# Altium integrated library Resistors.IntLib: 85 symbols
Pins are listed as number, name and electrical type; pins without a type are passive.

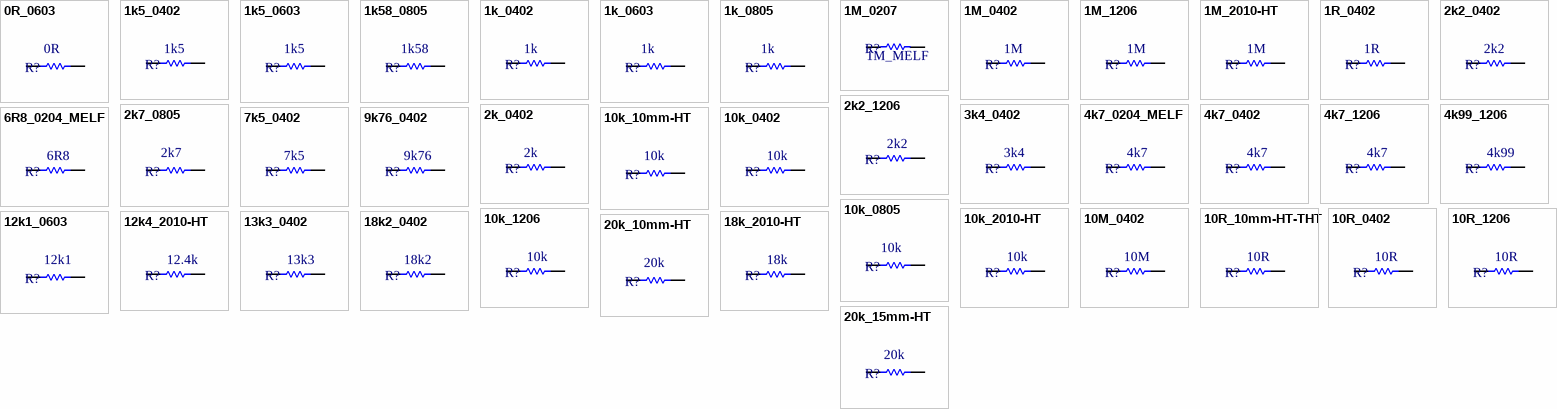
[diagram p0: symbols 0R_0603 to 20k_15mm-HT]

## 0R_0603
designator R?  value 0R  (hidden comment: 0R_0603)
Vishay, CRCW series, 100mW; Manufacturer PartNr: CRCW06030000ZSTA; Deliverer PartNr: 1652824; TDE-PN: R0041; Deliverer: Farnell; Published: 18.02.2014; Publisher: Sebastian Kulik; PackageDescription: 0603; Manufacturer: Vishay; Part Desicription: Vishay, CRCW series, 100mW
footprint R0603(1608) (Chip Resistor, 0603)
simulation model RESISTOR (Resistor)
signal-integrity model Res
pins: 1, 2

## 1k5_0402
designator R?  value 1k5  (hidden comment: 1k5_0402)
Vishay CRCW series, 125mW, 1%; Manufacturer PartNr: CRCW04021K50FKEAHP; Deliverer PartNr: 1738852; Part Description: Vishay CRCW series, 63mW, 1%; TDE-PN: R0036; Deliverer: Farnell; Published: 13.02.2014; Publisher: Sebastian Kulik; PackageDescription: 0402; Manufacturer: Vishay
footprint R0402 (Chip Resistor, Body 1.0x0.5mm)
simulation model RESISTOR (Resistor)
signal-integrity model Res
pins: 1, 2

## 1k5_0603
designator R?  value 1k5  (hidden comment: 1k5_0603)
Vishay, CRCW series, 100mW, 1%; Manufacturer PartNr: CRCW06031K50FKEA; Deliverer PartNr: 1469743; TDE-PN: R0001; Deliverer: Farnell; Published: 11.02.2014; Publisher: Sebastian Kulik; PackageDescription: 0603; Manufacturer: Vishay; Part Desicription: Vishay, CRCW series, 100mW, 1%
footprint R0603(1608) (Chip Resistor, 0603)
simulation model RESISTOR (Resistor)
signal-integrity model Res
pins: 1, 2

## 1k58_0805
designator R?  value 1k58  (hidden comment: 1k58_0805)
Vishay CRCW series, 125mW, 1%; Manufacturer PartNr: CRCW08051K58FKEA; Deliverer PartNr: 2138936RL; TDE-PN: R0002; Deliverer: Farnell; Published: 11.02.2014; Publisher: Sebastian Kulik; PackageDescription: 0805; Manufacturer: Vishay; Part Description: Vishay CRCW series, 125mW, 1%
footprint 6-0805_M (Chip Resistor, Body 2.0x1.2mm, IPC Low Density)
simulation model RESISTOR (Resistor)
signal-integrity model Res
pins: 1, 2

## 1k_0402
designator R?  value 1k  (hidden comment: 1k_0402)
Vishay CRCW series, 64mW, 1%; Manufacturer PartNr: CRCW04021K00FKED; Deliverer PartNr: 1469662RL; Part Description: Vishay CRCW series, 63mW, 1%; TDE-PN: R0003; Deliverer: Farnell; Published: 03.04.2014; Publisher: Sebastian Kulik; PackageDescription: 0402; Manufacturer: Vishay
footprint R0402 (Chip Resistor, Body 1.0x0.5mm)
simulation model RESISTOR (Resistor)
signal-integrity model Res
pins: 1, 2

## 1k_0603
designator R?  value 1k  (hidden comment: 1k_0603)
Vishay CRCW series, 100mW, 1%; Manufacturer PartNr: CRCW06031K00FKTA; Deliverer PartNr: 1652848; TDE-PN: R0070; Deliverer: Farnell; Published: 03.04.2014; Publisher: Sebastian Kulik; PackageDescription: 0603; Manufacturer: Vishay; Part Description: Vishay CRCW series, 100mW, 1%
footprint R0603(1608) (Chip Resistor, 0603)
simulation model RESISTOR (Resistor)
signal-integrity model Res
pins: 1, 2

## 1k_0805
designator R?  value 1k  (hidden comment: 1k_0805)
Vishay CRCW series, 125mW, 1%; Manufacturer PartNr: CRCW04021K00FKED; Deliverer PartNr: 2123128; TDE-PN: R0004; Deliverer: Farnell; Published: 03.04.2014; Publisher: Sebastian Kulik; PackageDescription: 0805; Manufacturer: Vishay; Part Description: Vishay CRCW series, 125mW, 1%
footprint 6-0805_M (Chip Resistor, Body 2.0x1.2mm, IPC Low Density)
simulation model RESISTOR (Resistor)
signal-integrity model Res
pins: 1, 2

## 1M_0207
designator R?  value 1M_MELF  (hidden comment: 1M_0207)
CMB series, 1W, 2%; Manufacturer: Vishay; Manufacturer PartNr: CMB02070X1004GB200; Deliverer PartNr: 1713643RL; TDE-PN: R0043; Deliverer: Farnell; Published: 29.04.2014; Publisher: Sebastian Kulik; PackageDescription: R0207; Part Description: CMB series, 1W, 2%
footprint R0207-MELF (MELF Resistor, 0207)
simulation model RESISTOR (Resistor)
signal-integrity model Res
pins: 1, 2

## 1M_0402
designator R?  value 1M  (hidden comment: 1M_0402)
Vishay CRCW series, 64mW, 1%; Manufacturer PartNr: CRCW04021M00FKED; Deliverer PartNr: 1469667; Part Description: Vishay CRCW series, 63mW, 1%; TDE-PN: R0005; Deliverer: Farnell; Published: 03.04.2014; Publisher: Sebastian Kulik; PackageDescription: 0402; Manufacturer: Vishay
footprint R0402 (Chip Resistor, Body 1.0x0.5mm)
simulation model RESISTOR (Resistor)
signal-integrity model Res
pins: 1, 2

## 1M_1206
designator R?  value 1M  (hidden comment: 1M_1206)
Vishay CRCW series, 250mW, 1%; Manufacturer PartNr: CRCW12061M00FKEA; Deliverer PartNr: 1469968RL; TDE-PN: R0052; Deliverer: Farnell; Published: 27.10.2014; Publisher: Sebastian Kulik; PackageDescription: 1206; Manufacturer: Vishay; Part Description: Vishay CRCW series, 250mW, 1%
simulation model RESISTOR (Resistor)
signal-integrity model Res
footprint R1206_N (Chip Resistor Body 3.2x2.5mm)
pins: 1, 2

## 1M_2010-HT
designator R?  value 1M  (hidden comment: 1M_2010-HT)
CHPHT series, 1% 100mW 200°C; Manufacturer: Vishay; Manufacturer PartNr: CHPHT2010K1004FNT; TDE-PN: R0078; Published: 17.06.2016; Publisher: Sebastian Kulik; PackageDescription: 2010; Deliverer: Vishay; Deliverer PartNr: CHPHT2010K1004FNT; Part Description: CHPHT series, 1% 100mW 200°C; Price: *
simulation model RESISTOR (Resistor)
signal-integrity model Res
footprint R2010 (Chip Resistor Body 5.08x2.54mm)
pins: 1, 2

## 1R_0402
designator R?  value 1R  (hidden comment: 1R_0402)
Vishay CRCW series, 64mW, 1%; Manufacturer PartNr: CRCW04021R00JNEDIF; Deliverer PartNr: 1739054RL; Part Description: Vishay CRCW series, 63mW, 1%; TDE-PN: R0006; Deliverer: Farnell; Published: 03.04.2014; Publisher: Sebastian Kulik; PackageDescription: 0402; Manufacturer: Vishay
footprint R0402 (Chip Resistor, Body 1.0x0.5mm)
simulation model RESISTOR (Resistor)
signal-integrity model Res
pins: 1, 2

## 2k2_0402
designator R?  value 2k2  (hidden comment: 2k2_0402)
Vishay CRCW series, 64mW, 1%; Manufacturer PartNr: CRCW04022K20FKEAHP; Deliverer PartNr: 1738854; Part Description: Vishay CRCW series, 63mW, 1%; TDE-PN: R0006; Deliverer: Farnell; Published: 03.04.2014; Publisher: Sebastian Kulik; PackageDescription: 0402; Manufacturer: Vishay
footprint R0402 (Chip Resistor, Body 1.0x0.5mm)
simulation model RESISTOR (Resistor)
signal-integrity model Res
pins: 1, 2

## 2k2_1206
designator R?  value 2k2  (hidden comment: 2k2_1206)
Vishay CRCW series, 250mW, 1%; Manufacturer PartNr: CRCW12062K20FKEAHP; Deliverer PartNr: 1739017RL; TDE-PN: R0062; Deliverer: Farnell; Published: 11.11.2014; Publisher: Sebastian Kulik; PackageDescription: 1206; Manufacturer: Vishay; Part Description: Vishay CRCW series, 250mW, 1%
simulation model RESISTOR (Resistor)
signal-integrity model Res
footprint R1206_N (Chip Resistor Body 3.2x2.5mm)
pins: 1, 2

## 2k7_0805
designator R?  value 2k7  (hidden comment: 2k7_0805)
Vishay CRCW series, 125mW, 1%; Manufacturer PartNr: CRCW08052K70FKEA; Deliverer PartNr: 1469891; TDE-PN: R0034; Deliverer: Farnell; Published: 03.04.2014; Publisher: Sebastian Kulik; PackageDescription: 0805; Manufacturer: Vishay; Part Description: Vishay CRCW series, 125mW, 1%
footprint 6-0805_M (Chip Resistor, Body 2.0x1.2mm, IPC Low Density)
simulation model RESISTOR (Resistor)
signal-integrity model Res
pins: 1, 2

## 2k_0402
designator R?  value 2k  (hidden comment: 2k_0402)
Vishay CRCW series, 64mW, 1%; Manufacturer PartNr: CRCW04022K00FKED; Deliverer PartNr: 2121639; Part Description: Vishay CRCW series, 63mW, 1%; TDE-PN: R0008; Deliverer: Farnell; Published: 03.04.2014; Publisher: Sebastian Kulik; PackageDescription: 0402; Manufacturer: Vishay
footprint R0402 (Chip Resistor, Body 1.0x0.5mm)
simulation model RESISTOR (Resistor)
signal-integrity model Res
pins: 1, 2

## 3k4_0402
designator R?  value 3k4  (hidden comment: 3k4_0402)
Vishay CRCW series, 64mW, 1%; Manufacturer PartNr: CRCW04023K40FKED; Deliverer PartNr: 2140819; Part Description: Vishay CRCW series, 63mW, 1%; TDE-PN: R0049; Deliverer: Farnell; Published: 07.08.2014; Publisher: Sebastian Kulik; PackageDescription: 0402; Manufacturer: Vishay
footprint R0402 (Chip Resistor, Body 1.0x0.5mm)
simulation model RESISTOR (Resistor)
signal-integrity model Res
pins: 1, 2

## 4k7_0204_MELF
designator R?  value 4k7  (hidden comment: 4k7_0204_MELF)
MMA series, 1%, 250mW; Manufacturer: Vishay; Manufacturer PartNr: MMA02040E4701BB100; Deliverer PartNr: 3086100; TDE-PN: R0073; Deliverer: Farnell; Published: 23.02.2015; Publisher: Sebastian Kulik; PackageDescription: R0204-MELF4; Part Description: MMA series, 1%, 250mW
simulation model RESISTOR (Resistor)
signal-integrity model Res
footprint R0204-MELF4 (MELF Resistor, 0204)
pins: 1, 2

## 4k7_0402
designator R?  value 4k7  (hidden comment: 4k7_0402)
Vishay CRCW series, 63mW, 1%; Manufacturer PartNr: CRCW04024K70FKED; Deliverer PartNr: 1469712; TDE-PN: R0009; Deliverer: Farnell; Published: 25.02.2014; Publisher: Sebastian Kulik; PackageDescription: 0402; Manufacturer: Vishay; Part Description: Vishay CRCW series, 63mW, 1%
footprint R0402 (Chip Resistor, Body 1.0x0.5mm)
simulation model RESISTOR (Resistor)
signal-integrity model Res
pins: 1, 2

## 4k7_1206
designator R?  value 4k7  (hidden comment: 4k7_1206)
Vishay CRCW series, 250mW, 1%; Manufacturer PartNr: CRCW12064K70FKEA; Deliverer PartNr: 2123974; TDE-PN: R0055; Deliverer: Farnell; Published: 28.10.2014; Publisher: Sebastian Kulik; PackageDescription: 1206; Manufacturer: Vishay; Part Description: Vishay CRCW series, 250mW, 1%
simulation model RESISTOR (Resistor)
signal-integrity model Res
footprint R1206_N (Chip Resistor Body 3.2x2.5mm)
pins: 1, 2

## 4k99_1206
designator R?  value 4k99  (hidden comment: 4k99_1206)
CRCW series, 250mW, 1%; Manufacturer: Vishay; Manufacturer PartNr: CRCW12064K99FKEA; Deliverer PartNr: 1470015; TDE-PN: R0010; Deliverer: Farnell; Published: 13.03.2014; Publisher: Sebastian Kulik; PackageDescription: 1206; Part Description: CRCW series, 250mW, 1%
footprint R1206_N (Chip Resistor Body 3.2x2.5mm)
simulation model RESISTOR (Resistor)
signal-integrity model Res
pins: 1, 2

## 6R8_0204_MELF
designator R?  value 6R8  (hidden comment: 6R8_0204_MELF)
MMA series, 1%, 250mW; Manufacturer: Vishay; Manufacturer PartNr: MMA02040C6808FB300; Deliverer PartNr: 3087529; TDE-PN: R0071; Deliverer: Farnell; Published: 12.12.2014; Publisher: Sebastian Kulik; PackageDescription: R0204-MELF4; Part Description: MMA series, 1%, 250mW
simulation model RESISTOR (Resistor)
signal-integrity model Res
footprint R0204-MELF4 (MELF Resistor, 0204)
pins: 1, 2

## 7k5_0402
designator R?  value 7k5  (hidden comment: 7k5_0402)
Vishay CRCW series, 64mW, 1%; Manufacturer PartNr: CRCW04027K50FKED; Deliverer PartNr: 1469729; Part Description: Vishay CRCW series, 63mW, 1%; TDE-PN: R0032; Deliverer: Farnell; Published: 03.04.2014; Publisher: Sebastian Kulik; PackageDescription: 0402; Manufacturer: Vishay
footprint R0402 (Chip Resistor, Body 1.0x0.5mm)
simulation model RESISTOR (Resistor)
signal-integrity model Res
pins: 1, 2

## 9k76_0402
designator R?  value 9k76  (hidden comment: 9k76_0402)
Vishay CRCW series, 64mW, 1%; Manufacturer PartNr: CRCW04029K76FKED; Deliverer PartNr: 1469738RL; Part Description: Vishay CRCW series, 63mW, 1%; TDE-PN: R0011; Deliverer: Farnell; Published: 03.04.2014; Publisher: Sebastian Kulik; PackageDescription: 0402; Manufacturer: Vishay
footprint R0402 (Chip Resistor, Body 1.0x0.5mm)
simulation model RESISTOR (Resistor)
signal-integrity model Res
pins: 1, 2

## 10k_10mm-HT
designator R?  value 10k  (hidden comment: 10k_10mm-HT)
RN60 Series, 1%, 175°C; Manufacturer: Vishay; Manufacturer PartNr: RN60C1002FB14; Deliverer PartNr: 830-7450; TDE-PN: R0083; Deliverer: RS; Published: 18.07.2016; Publisher: Sebastian Kulik; PackageDescription: -; Part Desicription: RN60 Series, 1%, 175°C; Price: 0.15/1
simulation model RESISTOR (Resistor)
signal-integrity model Res
footprint Dummy-10mm
pins: 1, 2

## 10k_0402
designator R?  value 10k  (hidden comment: 10k_0402)
Vishay CRCW series, 125mW, 1%; Manufacturer PartNr: CRCW040210K0FKEAHP; Deliverer PartNr: 1738864; TDE-PN: R0012; Deliverer: Farnell; Published: 12.02.2014; Publisher: Sebastian Kulik; PackageDescription: 0402; Manufacturer: Vishay; Part Description: Vishay CRCW series, 125mW, 1%
footprint R0402 (Chip Resistor, Body 1.0x0.5mm)
simulation model RESISTOR (Resistor)
signal-integrity model Res
pins: 1, 2

## 10k_0805
designator R?  value 10k  (hidden comment: 10k_0805)
Vishay CRCW series, 125mW, 1%; Manufacturer PartNr: CRCW080510K0FKEA; Deliverer PartNr: 1469856RL; TDE-PN: R0013; Deliverer: Farnell; Published: 03.04.2014; Publisher: Sebastian Kulik; PackageDescription: 0805; Manufacturer: Vishay; Part Description: Vishay CRCW series, 125mW, 1%
footprint 6-0805_M (Chip Resistor, Body 2.0x1.2mm, IPC Low Density)
simulation model RESISTOR (Resistor)
signal-integrity model Res
pins: 1, 2

## 10k_1206
designator R?  value 10k  (hidden comment: 10k_1206)
Vishay CRCW series, 250mW, 1%; Manufacturer PartNr: CRCW120610K0FKEA; Deliverer PartNr: 2124017; TDE-PN: R0056; Deliverer: Farnell; Published: 28.10.2014; Publisher: Sebastian Kulik; PackageDescription: 1206; Manufacturer: Vishay; Part Description: Vishay CRCW series, 250mW, 1%
simulation model RESISTOR (Resistor)
signal-integrity model Res
footprint R1206_N (Chip Resistor Body 3.2x2.5mm)
pins: 1, 2

## 10k_2010-HT
designator R?  value 10k  (hidden comment: 10k_2010-HT)
CHPHT series, 1% 100mW 200°C; Manufacturer: Vishay; Manufacturer PartNr: CHPHT2010K1002FNT; TDE-PN: R0074; Published: 17.06.2016; Publisher: Sebastian Kulik; PackageDescription: 2010; Deliverer: Vishay; Deliverer PartNr: CHPHT2010K1002FNT; Part Description: CHPHT series, 1% 100mW 200°C; Price: *
simulation model RESISTOR (Resistor)
signal-integrity model Res
footprint R2010 (Chip Resistor Body 5.08x2.54mm)
pins: 1, 2

## 10M_0402
designator R?  value 10M  (hidden comment: 10M_0402)
Vishay CRCW series, 64mW, 1%; Manufacturer PartNr: CRCW040210M0FKED; Deliverer PartNr: 1469670; Part Description: Vishay CRCW series, 63mW, 1%; TDE-PN: R0014; Deliverer: Farnell; Published: 03.04.2014; Publisher: Sebastian Kulik; PackageDescription: 0402; Manufacturer: Vishay
footprint R0402 (Chip Resistor, Body 1.0x0.5mm)
simulation model RESISTOR (Resistor)
signal-integrity model Res
pins: 1, 2

## 10R_10mm-HT-THT
designator R?  value 10R  (hidden comment: 10R_10mm-HT-THT)
Vishay RN60 series,175°C ,250mW, 1%; Manufacturer PartNr: RN60D10R0FB14; Deliverer PartNr: 830-7558; TDE-PN: R0080; Deliverer: RS; Published: 27.10.2014; Publisher: Sebastian Kulik; PackageDescription: 1206; Manufacturer: Vishay; Part Description: Vishay RN60 series,175°C ,250mW, 1%; Price: 0.11/1
simulation model RESISTOR (Resistor)
signal-integrity model Res
footprint Dummy-10mm
pins: 1, 2

## 10R_0402
designator R?  value 10R  (hidden comment: 10R_0402)
Vishay CRCW series, 125mW, 1%; Manufacturer PartNr: CRCW040210R0FKEAHP; Deliverer PartNr: 1738824RL; TDE-PN: R0015; Deliverer: Farnell; Published: 12.02.2014; Publisher: Sebastian Kulik; PackageDescription: 0402; Manufacturer: Vishay; Part Description: Vishay CRCW series, 125mW, 1%
footprint R0402 (Chip Resistor, Body 1.0x0.5mm)
simulation model RESISTOR (Resistor)
signal-integrity model Res
pins: 1, 2

## 10R_1206
designator R?  value 10R  (hidden comment: 10R_1206)
Vishay CRCW series, 250mW, 1%; Manufacturer PartNr: CRCW120610R0F100; Deliverer PartNr: 1653051; TDE-PN: R0050; Deliverer: Farnell; Published: 27.10.2014; Publisher: Sebastian Kulik; PackageDescription: 1206; Manufacturer: Vishay; Part Description: Vishay CRCW series, 250mW, 1%
simulation model RESISTOR (Resistor)
signal-integrity model Res
footprint R1206_N (Chip Resistor Body 3.2x2.5mm)
pins: 1, 2

## 12k1_0603
designator R?  value 12k1  (hidden comment: 12k1_0603)
Vishay, CRCW series, 100mW, 1%; Manufacturer PartNr: CRCW060312K1FKEA; Deliverer PartNr: 1652835; TDE-PN: R0037; Deliverer: Farnell; Published: 11.02.2014; Publisher: Sebastian Kulik; PackageDescription: 0603; Manufacturer: Vishay; Part Desicription: Vishay, CRCW series, 100mW, 1%
footprint R0603(1608) (Chip Resistor, 0603)
simulation model RESISTOR (Resistor)
signal-integrity model Res
pins: 1, 2

## 12k4_2010-HT
designator R?  value 12.4k  (hidden comment: 12k4_2010-HT)
CHPHT series, 1% 100mW 200°C; Manufacturer: Vishay; Manufacturer PartNr: CHPHT2010K1242FNT; TDE-PN: R0076; Published: 17.06.2016; Publisher: Sebastian Kulik; PackageDescription: 2010; Deliverer: Vishay; Deliverer PartNr: CHPHT2010K1242FNT; Part Description: CHPHT series, 1% 100mW 200°C; Price: *
simulation model RESISTOR (Resistor)
signal-integrity model Res
footprint R2010 (Chip Resistor Body 5.08x2.54mm)
pins: 1, 2

## 13k3_0402
designator R?  value 13k3  (hidden comment: 13k3_0402)
Vishay CRCW series, 63mW, 1%; Manufacturer PartNr: CRCW040213K3FKED; Deliverer PartNr: 1652750RL; TDE-PN: R0047; Deliverer: Farnell; Published: 30.06.2014; Publisher: Sebastian Kulik; PackageDescription: 0402; Manufacturer: Vishay; Part Description: Vishay CRCW series, 63mW, 1%
footprint R0402 (Chip Resistor, Body 1.0x0.5mm)
simulation model RESISTOR (Resistor)
signal-integrity model Res
pins: 1, 2

## 18k2_0402
designator R?  value 18k2  (hidden comment: 18k2_0402)
Vishay CRCW series, 64mW, 1%; Manufacturer PartNr: CRCW040218K2FKED; Deliverer PartNr: 1652762; Part Description: Vishay CRCW series, 63mW, 1%; TDE-PN: R0016; Deliverer: Farnell; Published: 03.04.2014; Publisher: Sebastian Kulik; PackageDescription: 0402; Manufacturer: Vishay
footprint R0402 (Chip Resistor, Body 1.0x0.5mm)
simulation model RESISTOR (Resistor)
signal-integrity model Res
pins: 1, 2

## 18k_2010-HT
designator R?  value 18k  (hidden comment: 18k_2010-HT)
CHPHT series, 1% 100mW 200°C; Manufacturer: Vishay; Manufacturer PartNr: CHPHT2010K1802FNT; TDE-PN: R0079; Published: 17.06.2016; Publisher: Sebastian Kulik; PackageDescription: 2010; Deliverer: Vishay; Deliverer PartNr: CHPHT2010K1802FNT; Part Description: CHPHT series, 1% 100mW 200°C; Price: *
simulation model RESISTOR (Resistor)
signal-integrity model Res
footprint R2010 (Chip Resistor Body 5.08x2.54mm)
pins: 1, 2

## 20k_10mm-HT
designator R?  value 20k  (hidden comment: 20k_10mm-HT)
RN60 Series, 1%, 175°C; Manufacturer: Vishay; Manufacturer PartNr: RN60D2002FB14; Deliverer PartNr: 849-9095; TDE-PN: R0082; Deliverer: RS; Published: 18.07.2016; Publisher: Sebastian Kulik; PackageDescription: -; Part Desicription: RN60 Series, 1%, 175°C; Price: 0.12/1
simulation model RESISTOR (Resistor)
signal-integrity model Res
footprint Dummy-10mm
pins: 1, 2

## 20k_15mm-HT
designator R?  value 20k  (hidden comment: 20k_15mm-HT)
RN65 Series, 1%, 175°C; Manufacturer: Vishay; Manufacturer PartNr: RN65D2002FB14; Deliverer PartNr: 850-0750; TDE-PN: R0081; Deliverer: RS; Published: 18.07.2016; Publisher: Sebastian Kulik; PackageDescription: -; Part Desicription: RN65 Series, 1%, 175°C; Price: 0.30/1
simulation model RESISTOR (Resistor)
signal-integrity model Res
footprint Dummy-15mm
pins: 1, 2

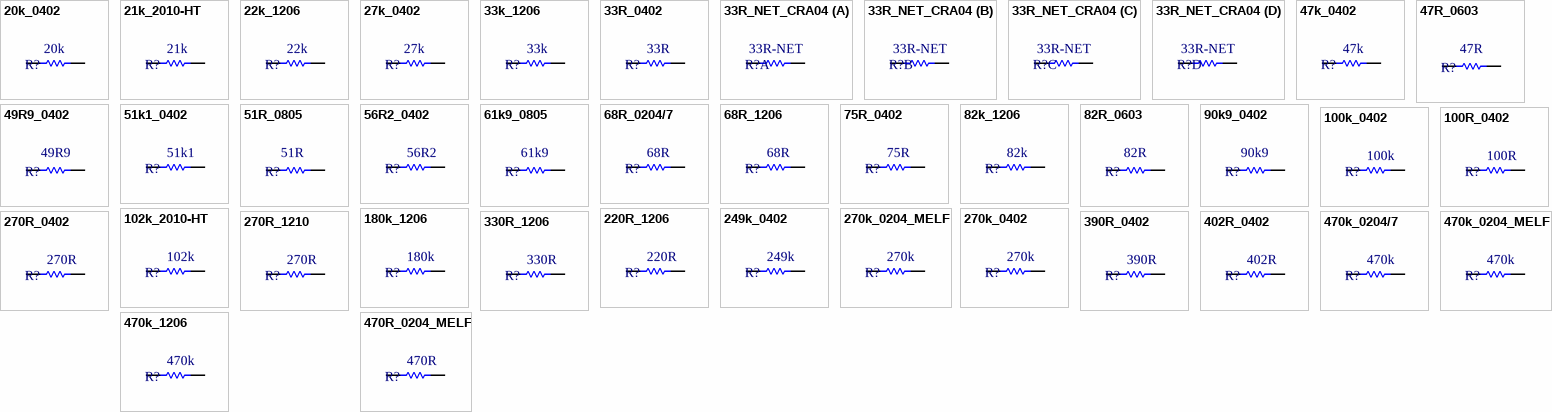
[diagram p1: symbols 20k_0402 to 470R_0204_MELF]

## 20k_0402
designator R?  value 20k  (hidden comment: 20k_0402)
Vishay CRCW series, 64mW, 1%; Manufacturer PartNr: CRCW040220K0FKED; Deliverer PartNr: 1469693RL; Part Description: Vishay CRCW series, 63mW, 1%; TDE-PN: R0017; Deliverer: Farnell; Published: 03.04.2014; PackageReference: 0402; Publisher: Sebastian Kulik; PackageDescription: 0402; Manufacturer: Vishay
simulation model RESISTOR (Resistor)
signal-integrity model Res
pins: 1, 2

## 21k_2010-HT
designator R?  value 21k  (hidden comment: 21k_2010-HT)
CHPHT series, 1% 100mW 200°C; Manufacturer: Vishay; Manufacturer PartNr: CHPHT2010K2102FNT; TDE-PN: R0075; Published: 17.06.2016; Publisher: Sebastian Kulik; PackageDescription: 2010; Deliverer: Vishay; Deliverer PartNr: CHPHT2010K2102FNT; Part Description: CHPHT series, 1% 100mW 200°C; Price: *
simulation model RESISTOR (Resistor)
signal-integrity model Res
footprint R2010 (Chip Resistor Body 5.08x2.54mm)
pins: 1, 2

## 22k_1206
designator R?  value 22k  (hidden comment: 22k_1206)
Vishay CRCW series, 250mW, 1%; Manufacturer PartNr: CRCW120622K0FKEA; Deliverer PartNr: 1469995RL; TDE-PN: R0057; Deliverer: Farnell; Published: 28.10.2014; Publisher: Sebastian Kulik; PackageDescription: 1206; Manufacturer: Vishay; Part Description: Vishay CRCW series, 250mW, 1%
simulation model RESISTOR (Resistor)
signal-integrity model Res
footprint R1206_N (Chip Resistor Body 3.2x2.5mm)
pins: 1, 2

## 27k_0402
designator R?  value 27k  (hidden comment: 27k_0402)
Vishay CRCW series, 64mW, 1%; Manufacturer PartNr: CRCW040227K0FKED; Deliverer PartNr: 2121782; Part Description: Vishay CRCW series, 63mW, 1%; TDE-PN: R0018; Deliverer: Farnell; Published: 03.04.2014; Publisher: Sebastian Kulik; PackageDescription: 0402; Manufacturer: Vishay
footprint R0402 (Chip Resistor, Body 1.0x0.5mm)
simulation model RESISTOR (Resistor)
signal-integrity model Res
pins: 1, 2

## 33k_1206
designator R?  value 33k  (hidden comment: 33k_1206)
Vishay CRCW series, 250mW, 1%; Manufacturer PartNr: CRCW120633K0FKEA; Deliverer PartNr: 2124080; TDE-PN: R0054; Deliverer: Farnell; Published: 28.10.2014; Publisher: Sebastian Kulik; PackageDescription: 1206; Manufacturer: Vishay; Part Description: Vishay CRCW series, 250mW, 1%
simulation model RESISTOR (Resistor)
signal-integrity model Res
footprint R1206_N (Chip Resistor Body 3.2x2.5mm)
pins: 1, 2

## 33R_0402
designator R?  value 33R  (hidden comment: 33R_0402)
Vishay CRCW series, 63mW, 1%; Manufacturer PartNr: CRCW040233R0FKEAHP; Deliverer PartNr: 1738830; TDE-PN: R0037; Deliverer: Farnell; Published: 12.02.2014; Publisher: Sebastian Kulik; PackageDescription: 0402; Manufacturer: Vishay; Part Description: Vishay CRCW series, 63mW, 1%
footprint R0402 (Chip Resistor, Body 1.0x0.5mm)
simulation model RESISTOR (Resistor)
signal-integrity model Res
pins: 1, 2

## 33R_NET_CRA04
designator R?  value 33R-NET  (hidden comment: 33R_NET_CRA04)
CRA04 series, 5%, 63mW; Manufacturer: Vishay; Manufacturer PartNr: CRA04S08333R0JTD; Deliverer PartNr: 1878555; TDE-PN: R0019; Deliverer: Farnell; Published: 07.04.2014; Publisher: Sebastian Kulik; PackageDescription: CRA04S; Part Description: CRA04 series, 5%, 63mW
footprint CRA04S (R-NET)
simulation model RESISTOR (Resistor)
signal-integrity model Res
part A pins: 1, 8
part B pins: 2, 7
part C pins: 3, 6
part D pins: 4, 5

## 47k_0402
designator R?  value 47k  (hidden comment: 47k_0402)
Vishay CRCW series, 63mW, 1%; Manufacturer PartNr: CRCW040247K0JNEAIF; Deliverer PartNr: 1739115; TDE-PN: R0020; Deliverer: Farnell; Published: 07.04.2014; Publisher: Sebastian Kulik; PackageDescription: 0402; Manufacturer: Vishay; Part Description: Vishay CRCW series, 63mW, 1%
footprint R0402 (Chip Resistor, Body 1.0x0.5mm)
simulation model RESISTOR (Resistor)
signal-integrity model Res
pins: 1, 2

## 47R_0603
designator R?  value 47R  (hidden comment: 47R_0603)
Vishay, CRCW series, 100mW, 1%; Manufacturer PartNr: CRCW060347R0FKEA; Deliverer PartNr: 1652835; TDE-PN: R0039; Deliverer: Farnell; Published: 18.02.2014; Publisher: Sebastian Kulik; PackageDescription: 0603; Manufacturer: Vishay; Part Desicription: Vishay, CRCW series, 100mW, 1%
footprint R0603(1608) (Chip Resistor, 0603)
simulation model RESISTOR (Resistor)
signal-integrity model Res
pins: 1, 2

## 49R9_0402
designator R?  value 49R9  (hidden comment: 49R9_0402)
Vishay CRCW series, 63mW, 1%; Manufacturer PartNr: CRCW040249R9FKED; Deliverer PartNr: 1469722; TDE-PN: R0035; Deliverer: Farnell; Published: 13.02.2014; Publisher: Sebastian Kulik; PackageDescription: 0402; Manufacturer: Vishay; Part Description: Vishay CRCW series, 63mW, 1%
footprint R0402 (Chip Resistor, Body 1.0x0.5mm)
simulation model RESISTOR (Resistor)
signal-integrity model Res
pins: 1, 2

## 51k1_0402
designator R?  value 51k1  (hidden comment: 51k1_0402)
Vishay CRCW series, 63mW, 1%; Manufacturer PartNr: CRCW040251K1FKED; Deliverer PartNr: 1652806; TDE-PN: R0046; Deliverer: Farnell; Published: 30.06.2014; Publisher: Sebastian Kulik; PackageDescription: 0402; Manufacturer: Vishay; Part Description: Vishay CRCW series, 63mW, 1%
footprint R0402 (Chip Resistor, Body 1.0x0.5mm)
simulation model RESISTOR (Resistor)
signal-integrity model Res
pins: 1, 2

## 51R_0805
designator R?  value 51R  (hidden comment: 51R_0805)
Vishay CRCW series, 125mW, 1%; Manufacturer PartNr: CRCW080551R0FKEA; Deliverer PartNr: 2122964; TDE-PN: R0063; Deliverer: Farnell; Published: 11.11.2014; Publisher: Sebastian Kulik; PackageDescription: 0805; Manufacturer: Vishay; Part Description: Vishay CRCW series, 125mW, 1%
footprint 6-0805_M (Chip Resistor, Body 2.0x1.2mm, IPC Low Density)
simulation model RESISTOR (Resistor)
signal-integrity model Res
pins: 1, 2

## 56R2_0402
designator R?  value 56R2  (hidden comment: 56R2_0402)
Vishay CRCW series, 63mW, 1%; Manufacturer PartNr: CRCW040256R2FKED; Deliverer PartNr: 2140649RL; TDE-PN: R0021; Deliverer: Farnell; Published: 07.04.2014; Publisher: Sebastian Kulik; PackageDescription: 0402; Manufacturer: Vishay; Part Description: Vishay CRCW series, 63mW, 1%
footprint R0402 (Chip Resistor, Body 1.0x0.5mm)
simulation model RESISTOR (Resistor)
signal-integrity model Res
pins: 1, 2

## 61k9_0805
designator R?  value 61k9  (hidden comment: 61k9_0805)
Vishay CRCW series, 125mW, 1%; Manufacturer PartNr: CRCW080561K9FKEA; Deliverer PartNr: 2123354; TDE-PN: R0022; Deliverer: Farnell; Published: 07.04.2014; Publisher: Sebastian Kulik; PackageDescription: 0805; Manufacturer: Vishay; Part Description: Vishay CRCW series, 125mW, 1%
footprint 6-0805_M (Chip Resistor, Body 2.0x1.2mm, IPC Low Density)
simulation model RESISTOR (Resistor)
signal-integrity model Res
pins: 1, 2

## 68R_0204/7
designator R?  value 68R  (hidden comment: 68R_0204/7)
5%, 1W; Manufacturer: Vishay; Manufacturer PartNr: AC01000006809JA100; Deliverer PartNr: 1735046; TDE-PN: R0067; Deliverer: Farnell; Published: 251.11.2014; Publisher: Sebastian Kulik; PackageDescription: 0204/7; Part Description: 5%, 1W
simulation model RESISTOR (Resistor)
signal-integrity model Res
footprint 0204/7
pins: 1, 2

## 68R_1206
designator R?  value 68R  (hidden comment: 68R_1206)
Vishay CRCW series, 250mW, 1%; Manufacturer PartNr: CRCW120668R0FKEA; Deliverer PartNr: 2139334; TDE-PN: R0064; Deliverer: Farnell; Published: 19.11.2014; Publisher: Sebastian Kulik; PackageDescription: 1206; Manufacturer: Vishay; Part Description: Vishay CRCW series, 250mW, 1%
simulation model RESISTOR (Resistor)
signal-integrity model Res
footprint R1206_N (Chip Resistor Body 3.2x2.5mm)
pins: 1, 2

## 75R_0402
designator R?  value 75R  (hidden comment: 75R_0402)
Vishay CRCW series, 63mW, 1%; Manufacturer PartNr: CRCW040275R0FKED; Deliverer PartNr: 1469734; TDE-PN: R0023; Deliverer: Farnell; Published: 07.04.2014; Publisher: Sebastian Kulik; PackageDescription: 0402; Manufacturer: Vishay; Part Description: Vishay CRCW series, 63mW, 1%
footprint R0402 (Chip Resistor, Body 1.0x0.5mm)
simulation model RESISTOR (Resistor)
signal-integrity model Res
pins: 1, 2

## 82k_1206
designator R?  value 82k  (hidden comment: 82k_1206)
Vishay CRCW series, 250mW, 1%; Manufacturer PartNr: CRCW120682K0FKEA; Deliverer PartNr: 2124133; TDE-PN: R0053; Deliverer: Farnell; Published: 28.10.2014; Publisher: Sebastian Kulik; PackageDescription: 1206; Manufacturer: Vishay; Part Description: Vishay CRCW series, 250mW, 1%
simulation model RESISTOR (Resistor)
signal-integrity model Res
footprint R1206_N (Chip Resistor Body 3.2x2.5mm)
pins: 1, 2

## 82R_0603
designator R?  value 82R  (hidden comment: 82R_0603)
Vishay, CRCW series, 100mW, 1%; Manufacturer PartNr: CRCW060382R0FKEA; Deliverer PartNr: 2122228; TDE-PN: R0040; Deliverer: Farnell; Published: 18.02.2014; Publisher: Sebastian Kulik; PackageDescription: 0603; Manufacturer: Vishay; Part Desicription: Vishay, CRCW series, 100mW, 1%
footprint R0603(1608) (Chip Resistor, 0603)
simulation model RESISTOR (Resistor)
signal-integrity model Res
pins: 1, 2

## 90k9_0402
designator R?  value 90k9  (hidden comment: 90k9_0402)
Vishay CRCW series, 125mW, 1%; Manufacturer PartNr: CRCW040290K9FKED; Deliverer PartNr: 2140929; TDE-PN: R0024; Deliverer: Farnell; Published: 07.04.2014; Publisher: Sebastian Kulik; PackageDescription: 0402; Manufacturer: Vishay; Part Description: Vishay CRCW series, 125mW, 1%
footprint R0402 (Chip Resistor, Body 1.0x0.5mm)
simulation model RESISTOR (Resistor)
signal-integrity model Res
pins: 1, 2

## 100k_0402
designator R?  value 100k  (hidden comment: 100k_0402)
CRCW series, 125mW, 1%; Manufacturer: Vishay; Manufacturer PartNr: CRCW040275R0FKED; Deliverer PartNr: 1738877; TDE-PN: R0025; Deliverer: Farnell; Published: 07.04.2014; Publisher: Sebastian Kulik; PackageDescription: 0402; Part Description: CRCW series, 125mW, 1%
footprint R0402 (Chip Resistor, Body 1.0x0.5mm)
simulation model RESISTOR (Resistor)
signal-integrity model Res
pins: 1, 2

## 100R_0402
designator R?  value 100R  (hidden comment: 100R_0402)
CRCW series, 125mW, 1%; Manufacturer: Vishay; Manufacturer PartNr: CRCW0402100RFKEAHP; Deliverer PartNr: 1738837RL; TDE-PN: R0026; Deliverer: Farnell; Published: 07.04.2014; Publisher: Sebastian Kulik; PackageDescription: 0402; Part Description: CRCW series, 125mW, 1%
footprint R0402 (Chip Resistor, Body 1.0x0.5mm)
simulation model RESISTOR (Resistor)
signal-integrity model Res
pins: 1, 2

## 102k_2010-HT
designator R?  value 102k  (hidden comment: 102k_2010-HT)
CHPHT series, 1% 100mW 200°C; Manufacturer: Vishay; Manufacturer PartNr: CHPHT2010K1023FNT; TDE-PN: R0077; Published: 17.06.2016; Publisher: Sebastian Kulik; PackageDescription: 2010; Deliverer: Vishay; Deliverer PartNr: CHPHT2010K1023FNT; Part Description: CHPHT series, 1% 100mW 200°C; Price: *
simulation model RESISTOR (Resistor)
signal-integrity model Res
footprint R2010 (Chip Resistor Body 5.08x2.54mm)
pins: 1, 2

## 180k_1206
designator R?  value 180k  (hidden comment: 180k_1206)
Vishay CRCW series, 250mW, 1%; Manufacturer PartNr: CRCW1206180KFKEA; Deliverer PartNr: 2139611RL; TDE-PN: R0066; Deliverer: Farnell; Published: 19.11.2014; Publisher: Sebastian Kulik; PackageDescription: 1206; Manufacturer: Vishay; Part Description: Vishay CRCW series, 250mW, 1%
simulation model RESISTOR (Resistor)
signal-integrity model Res
footprint R1206_N (Chip Resistor Body 3.2x2.5mm)
pins: 1, 2

## 220R_1206
designator R?  value 220R  (hidden comment: 220R_1206)
Vishay CRCW series, 250mW, 1%; Manufacturer PartNr: CRCW1206220RFKEA; Deliverer PartNr: 2139380RL; TDE-PN: R0058; Deliverer: Farnell; Published: 28.10.2014; Publisher: Sebastian Kulik; PackageDescription: 1206; Manufacturer: Vishay; Part Description: Vishay CRCW series, 250mW, 1%
simulation model RESISTOR (Resistor)
signal-integrity model Res
footprint R1206_N (Chip Resistor Body 3.2x2.5mm)
pins: 1, 2

## 249k_0402
designator R?  value 249k  (hidden comment: 249k_0402)
Vishay CRCW series, 63mW, 1%; Manufacturer PartNr: CRCW0402249KFKED; Deliverer PartNr: 2140966RL; TDE-PN: R0048; Deliverer: Farnell; Published: 30.06.2014; Publisher: Sebastian Kulik; PackageDescription: 0402; Manufacturer: Vishay; Part Description: Vishay CRCW series, 63mW, 1%
footprint R0402 (Chip Resistor, Body 1.0x0.5mm)
simulation model RESISTOR (Resistor)
signal-integrity model Res
pins: 1, 2

## 270k_0204_MELF
designator R?  value 270k  (hidden comment: 270k_0204_MELF)
MMA series, 1%, 250mW; Manufacturer: Vishay; Manufacturer PartNr: MMA02040C2703FB300; Deliverer PartNr: 3088078; TDE-PN: R0068; Deliverer: Farnell; Published: 11.12.2014; Publisher: Sebastian Kulik; PackageDescription: R0204-MELF4; Part Description: MMA series, 1%, 250mW
simulation model RESISTOR (Resistor)
signal-integrity model Res
footprint R0204-MELF4 (MELF Resistor, 0204)
pins: 1, 2

## 270k_0402
designator R?  value 270k  (hidden comment: 270k_0402)
CRCW series, 125mW, 1%; Manufacturer: Vishay; Manufacturer PartNr: CRCW0402270KFKED; Deliverer PartNr: 2140970RL; TDE-PN: R0027; Deliverer: Farnell; Published: 07.04.2014; Publisher: Sebastian Kulik; PackageDescription: 0402; Part Description: CRCW series, 125mW, 1%
footprint R0402 (Chip Resistor, Body 1.0x0.5mm)
simulation model RESISTOR (Resistor)
signal-integrity model Res
pins: 1, 2

## 270R_0402
designator R?  value 270R  (hidden comment: 270R_0402)
CRCW series, 125mW, 1%; Manufacturer: Vishay; Manufacturer PartNr: CRCW0402270RFKEAHP; Deliverer PartNr: 1738842; TDE-PN: R0045; Deliverer: Farnell; Published: 30.04.2014; Publisher: Sebastian Kulik; PackageDescription: 0402; Part Description: CRCW series, 125mW, 1%
footprint R0402 (Chip Resistor, Body 1.0x0.5mm)
simulation model RESISTOR (Resistor)
signal-integrity model Res
pins: 1, 2

## 270R_1210
designator R?  value 270R  (hidden comment: 270R_1210)
ERJ series, 500mW, 5%; Manufacturer: Panasonic; Manufacturer PartNr: ERJ14YJ271U; Deliverer PartNr: 2324044; TDE-PN: R0042; Deliverer: Farnell; Published: 13.03.2014; Publisher: Sebastian Kulik; PackageDescription: 1210; Part Description: ERJ series, 500mW, 5%
footprint R1210_N (Chip Resistor Body 3.2x2.5mm)
simulation model RESISTOR (Resistor)
signal-integrity model Res
pins: 1, 2

## 330R_1206
designator R?  value 330R  (hidden comment: 330R_1206)
Vishay CRCW series, 250mW, 1%; Manufacturer PartNr: CRCW1206330RFKEA; Deliverer PartNr: 1470008RL; TDE-PN: R0051; Deliverer: Farnell; Published: 27.10.2014; Publisher: Sebastian Kulik; PackageDescription: 1206; Manufacturer: Vishay; Part Description: Vishay CRCW series, 250mW, 1%
simulation model RESISTOR (Resistor)
signal-integrity model Res
footprint R1206_N (Chip Resistor Body 3.2x2.5mm)
pins: 1, 2

## 390R_0402
designator R?  value 390R  (hidden comment: 390R_0402)
CRCW series, 125mW, 1%; Manufacturer: Vishay; Manufacturer PartNr: CRCW0402390RFKEAHP; Deliverer PartNr: 1469662RL; TDE-PN: R0044; Deliverer: Farnell; Published: 30.04.2014; Publisher: Sebastian Kulik; PackageDescription: 0402; Part Description: CRCW series, 125mW, 1%
footprint R0402 (Chip Resistor, Body 1.0x0.5mm)
simulation model RESISTOR (Resistor)
signal-integrity model Res
pins: 1, 2

## 402R_0402
designator R?  value 402R  (hidden comment: 402R_0402)
CRCW series, 125mW, 1%; Manufacturer: Vishay; Manufacturer PartNr: CRCW0805402RFKEA; Deliverer PartNr: 1652999RL; TDE-PN: R0031; Deliverer: Farnell; Published: 07.04.2014; Publisher: Sebastian Kulik; PackageDescription: 0402; Part Description: CRCW series, 125mW, 1%
footprint R0402 (Chip Resistor, Body 1.0x0.5mm)
simulation model RESISTOR (Resistor)
signal-integrity model Res
pins: 1, 2

## 470k_0204/7
designator R?  value 470k  (hidden comment: 470k_0204/7)
MRS25 series, 1%, 600mW; Manufacturer: Vishay; Manufacturer PartNr: MRS25000C4703FCT00; Deliverer PartNr: 9468455; TDE-PN: R0061; Deliverer: Farnell; Published: 07.11.2014; Publisher: Sebastian Kulik; PackageDescription: 0204/7; Part Description: MRS25 series, 1%, 600mW
simulation model RESISTOR (Resistor)
signal-integrity model Res
footprint 0204/7
pins: 1, 2

## 470k_0204_MELF
designator R?  value 470k  (hidden comment: 470k_0204_MELF)
MMA series, 1%, 250mW; Manufacturer: Vishay; Manufacturer PartNr: MMA02040C4703FB300; Deliverer PartNr: 3088108; TDE-PN: R0074; Deliverer: Farnell; Published: 23.02.2015; Publisher: Sebastian Kulik; PackageDescription: R0204-MELF4; Part Description: MMA series, 1%, 250mW
simulation model RESISTOR (Resistor)
signal-integrity model Res
footprint R0204-MELF4 (MELF Resistor, 0204)
pins: 1, 2

## 470k_1206
designator R?  value 470k  (hidden comment: 470k_1206)
Vishay CRCW series, 250mW, 1%; Manufacturer PartNr: CRCW1206470KFKEA; Deliverer PartNr: 2139655; TDE-PN: R0060; Deliverer: Farnell; Published: 06.11.2014; Publisher: Sebastian Kulik; PackageDescription: 1206; Manufacturer: Vishay; Part Description: Vishay CRCW series, 250mW, 1%
simulation model RESISTOR (Resistor)
signal-integrity model Res
footprint R1206_N (Chip Resistor Body 3.2x2.5mm)
pins: 1, 2

## 470R_0204_MELF
designator R?  value 470R  (hidden comment: 470R_0204_MELF)
MMA series, 1%, 250mW; Manufacturer: Vishay; Manufacturer PartNr: MMA02040C4700FB300; Deliverer PartNr: 3087748; TDE-PN: R0069; Deliverer: Farnell; Published: 11.12.2014; Publisher: Sebastian Kulik; PackageDescription: R0204-MELF4; Part Description: MMA series, 1%, 250mW
simulation model RESISTOR (Resistor)
signal-integrity model Res
footprint R0204-MELF4 (MELF Resistor, 0204)
pins: 1, 2

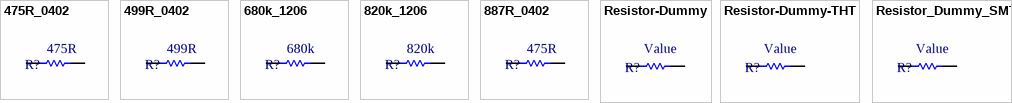
[diagram p2: symbols 475R_0402 to Resistor_Dummy_SMT]

## 475R_0402
designator R?  value 475R  (hidden comment: 475R_0402)
CRCW series, 63mW, 1%; Manufacturer: Vishay; Manufacturer PartNr: CRCW0402475RFKED; Deliverer PartNr: 1652798RL; TDE-PN: R0028; Deliverer: Farnell; Published: 07.04.2014; Publisher: Sebastian Kulik; PackageDescription: 0402; Part Description: CRCW series, 63mW, 1%
footprint R0402 (Chip Resistor, Body 1.0x0.5mm)
simulation model RESISTOR (Resistor)
signal-integrity model Res
pins: 1, 2

## 499R_0402
designator R?  value 499R  (hidden comment: 499R_0402)
CRCW series, 63mW, 1%; Manufacturer: Vishay; Manufacturer PartNr: CRCW0402499RFKED; Deliverer PartNr: 1469724RL; TDE-PN: R0033; Deliverer: Farnell; Published: 07.04.2014; Publisher: Sebastian Kulik; PackageDescription: 0402; Part Description: CRCW series, 63mW, 1%
footprint R0402 (Chip Resistor, Body 1.0x0.5mm)
simulation model RESISTOR (Resistor)
signal-integrity model Res
pins: 1, 2

## 680k_1206
designator R?  value 680k  (hidden comment: 680k_1206)
Vishay CRCW series, 250mW, 1%; Manufacturer PartNr: CRCW1206680KFKEA; Deliverer PartNr: 2124249; TDE-PN: R0059; Deliverer: Farnell; Published: 06.11.2014; Publisher: Sebastian Kulik; PackageDescription: 1206; Manufacturer: Vishay; Part Description: Vishay CRCW series, 250mW, 1%
simulation model RESISTOR (Resistor)
signal-integrity model Res
footprint R1206_N (Chip Resistor Body 3.2x2.5mm)
pins: 1, 2

## 820k_1206
designator R?  value 820k  (hidden comment: 820k_1206)
Vishay CRCW series, 250mW, 1%; Manufacturer PartNr: CRCW1206820KFKEA; Deliverer PartNr: 139682RL; TDE-PN: R0065; Deliverer: Farnell; Published: 19.11.2014; Publisher: Sebastian Kulik; PackageDescription: 1206; Manufacturer: Vishay; Part Description: Vishay CRCW series, 250mW, 1%
simulation model RESISTOR (Resistor)
signal-integrity model Res
footprint R1206_N (Chip Resistor Body 3.2x2.5mm)
pins: 1, 2

## 887R_0402
designator R?  value 475R  (hidden comment: 887R_0402)
CRCW series, 63mW, 1%; Manufacturer: Vishay; Manufacturer PartNr: CRCW0402887RFKED; Deliverer PartNr: 2121597; TDE-PN: R0029; Deliverer: Farnell; Published: 07.04.2014; Publisher: Sebastian Kulik; PackageDescription: 0402; Part Description: CRCW series, 63mW, 1%
footprint R0402 (Chip Resistor, Body 1.0x0.5mm)
simulation model RESISTOR (Resistor)
signal-integrity model Res
pins: 1, 2

## Resistor-Dummy
designator R?  (value not drawn)
Part Desicription: Resistor-Dummy-THT; Published: 08.12.2015; Publisher: Sebastian Kulik; PackageDescription: -; Manufacturer: -; Manufacturer PartNr: -; TDE-PN: -; Deliverer PartNr: -; Deliverer: -; Price: *; Value: Value
simulation model RESISTOR (Resistor)
signal-integrity model Res
pins: 1, 2

## Resistor-Dummy-THT
designator R?  (value not drawn)
Published: 08.12.2015; Publisher: Sebastian Kulik; PackageDescription: -; Manufacturer: -; Manufacturer PartNr: -; TDE-PN: -; Deliverer PartNr: -; Deliverer: -; Part Desicription: Resistor-Dummy-THT; Price: *; Value: Value
footprint Dummy-10mm
simulation model RESISTOR (Resistor)
signal-integrity model Res
footprint Dummy-15mm
pins: 1, 2

## Resistor_Dummy_SMT
designator R?  (value not drawn)
Published: 18.02.2014; Publisher: Sebastian Kulik; PackageDescription: 0603; Manufacturer: -; Manufacturer PartNr: -; TDE-PN: -; Deliverer PartNr: -; Deliverer: -; Part Desicription: Resistor_Dummy_SMT; Value: Value
footprint R0603(1608) (Chip Resistor, 0603)
simulation model RESISTOR (Resistor)
signal-integrity model Res
footprint 6-0805_N (Chip Resistor, Body 2.0x1.2mm, IPC Medium Density)
footprint R0204-MELF4 (MELF Resistor, 0204)
footprint R0402 (Chip Resistor, Body 1.0x0.5mm)
footprint R1206_N (Chip Resistor Body 3.2x2.5mm)
footprint R1210_N (Chip Resistor Body 3.2x2.5mm)
footprint R2512 (Chip Resistor Body 3.2x2.5mm)
pins: 1, 2